# Altium integrated library ON Semi Darlington Transistors.IntLib: 300 symbols (part 3 of 7)
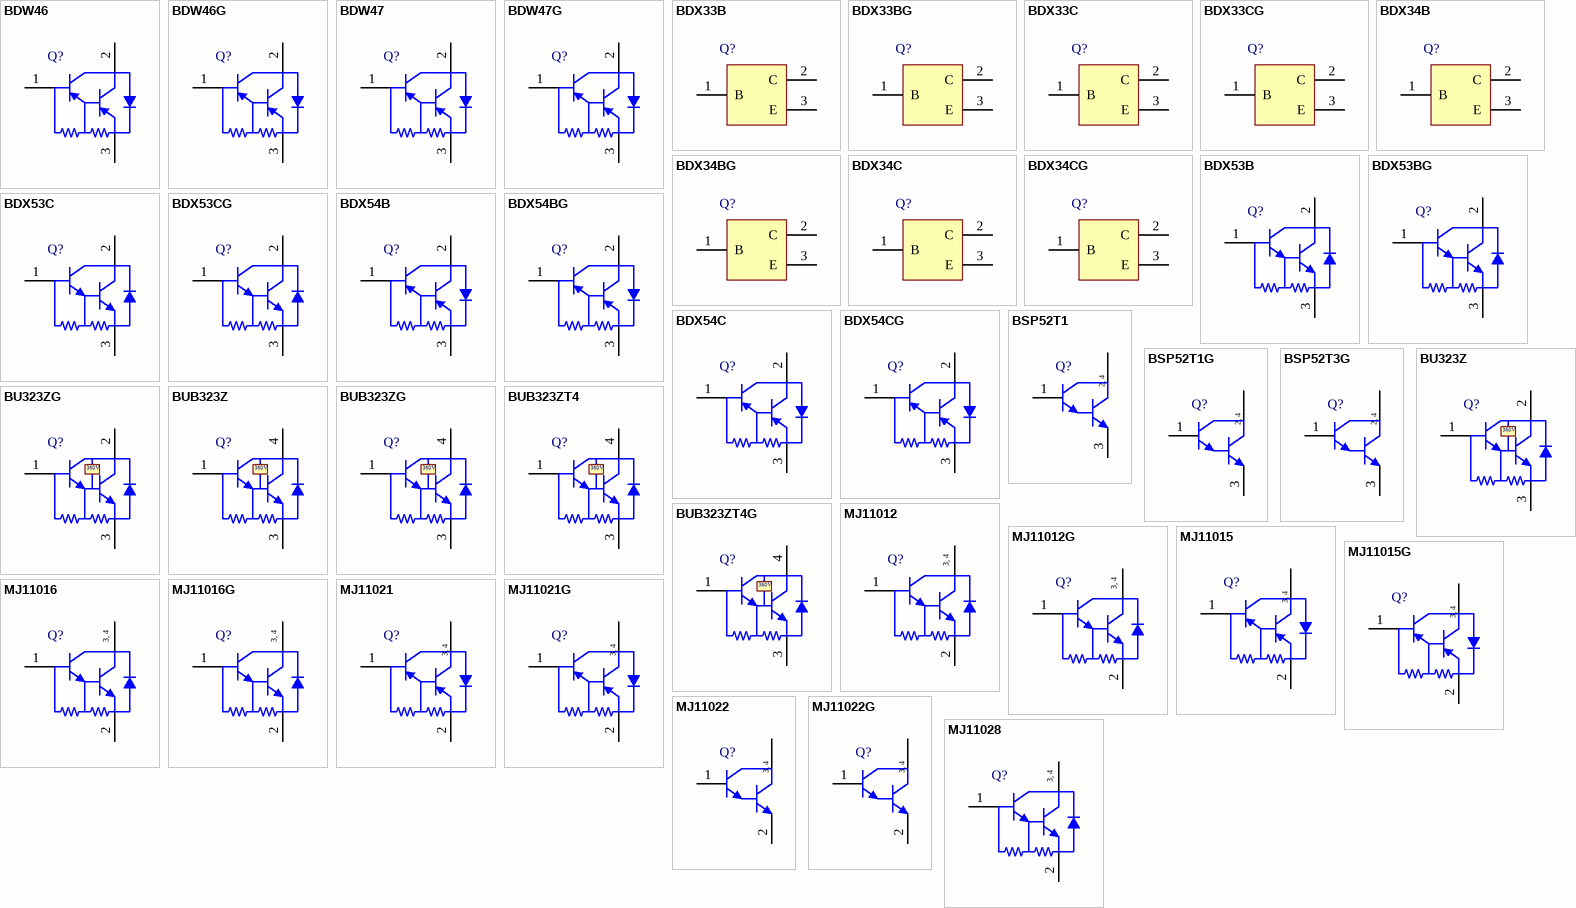
[diagram p9: symbols BDW46 to MJ11028]

## BDX54CG
designator Q?
Plastic Medium-Power Complementary Silicon Transistor, 3-Pin TO-220, Pb-Free, Tube; Manufacturer: On Semiconductor; PartNumber: BDX54CG; IC Continuous (A): 8; Polarity: PNP; DatasheetVersion: Rev. 14; PackageVersion: Rev. AG, 09/2011; PackageReference: TO-220-3-221A-09; PackageDescription: 3-Pin Flange Mount, Vertical Straight Lead, Body 9.97 x 4.445 mm, Pitch 2.54 mm; Supplier 1: Digi-Key; Supplier Part Number 1: BDX54CGOS-ND; Supplier 2: Farnell; Supplier Part Number 2: 9557768; Supplier 3: Newark; Supplier Part Number 3: 26K3490; Supplier 4: Mouser; Supplier Part Number 4: 863-BDX54CG; Packing: Tube; RoHS: TRUE; Mounting Technology: Through Hole; ComponentLink1Description: Manufacturer URL; ComponentLink1URL: http://www.onsemi.com/; ComponentLink2Description: Datasheet; ComponentLink2URL: http://www.onsemi.com/pub_link/Collateral/BDX53B-D.PDF; ComponentLink3Description: Package Specification; ComponentLink3URL: http://www.onsemi.com/pub_link/Collateral/221A-09.PDF
footprint ONSC-TO-220-3-221A-09 (FM, 3-Leads, Body 10.3x4.85mm, Pitch 2.54mm)
pins: 1 B, 2 C, 3 E

## BSP52T1
designator Q?
NPN Small-Signal Darlington Transistor, 4-Pin SOT-223, Tape and Reel; Manufacturer: On Semiconductor; PartNumber: BSP52T1; IC Continuous (A): 1; DatasheetVersion: Rev. 8; PackageVersion: Rev. N, 08/2009; PackageReference: SOT-223-4-318E-04; PackageDescription: 4-Pin Small Outline Transistor, Body 6.5 x 3.5 mm, Pitch 2.3 mm; Supplier 1: Digi-Key; Supplier Part Number 1: BSP52T1OSCT-ND; Supplier 2: Digi-Key; Supplier Part Number 2: BSP52T1OSDKR-ND; Packing: Tape and Reel; Polarity: NPN; RoHS: FALSE; Mounting Technology: Surface Mount; ComponentLink1Description: Manufacturer URL; ComponentLink1URL: http://www.onsemi.com/; ComponentLink2Description: Datasheet; ComponentLink2URL: http://www.onsemi.com/pub_link/Collateral/BSP52T1-D.PDF; ComponentLink3Description: Package Specification; ComponentLink3URL: http://www.onsemi.com/pub_link/Collateral/318E-04.PDF
footprint ONSC-SOT-223-4-318E-04_V (SOT223, 4-Leads, Body 6.5x3.5mm, Pitch 2.3mm)
pins: 1 B, 2 C, 3 E, 4 C
text: 2, 4

## BSP52T1G
designator Q?
NPN Small-Signal Darlington Transistor, 4-Pin SOT-223, Pb-Free, Tape and Reel; Manufacturer: On Semiconductor; PartNumber: BSP52T1G; IC Continuous (A): 1; DatasheetVersion: Rev. 8; PackageVersion: Rev. N, 08/2009; PackageReference: SOT-223-4-318E-04; PackageDescription: 4-Pin Small Outline Transistor, Body 6.5 x 3.5 mm, Pitch 2.3 mm; Supplier 1: Digi-Key; Supplier Part Number 1: BSP52T1GOSTR-ND; Supplier 2: Digi-Key; Supplier Part Number 2: BSP52T1GOSCT-ND; Supplier 3: Digi-Key; Supplier Part Number 3: BSP52T1GOSDKR-ND; Supplier 4: Farnell; Supplier Part Number 4: 2317846; Supplier 5: Farnell; Supplier Part Number 5: 2317579; Supplier 6: Newark; Supplier Part Number 6: 85W3128; Supplier 7: Newark; Supplier Part Number 7: 45J0623; Supplier 8: Mouser; Supplier Part Number 8: 863-BSP52T1G; Packing: Tape and Reel; Polarity: NPN; RoHS: TRUE; Mounting Technology: Surface Mount; ComponentLink1Description: Manufacturer URL; ComponentLink1URL: http://www.onsemi.com/; ComponentLink2Description: Datasheet; ComponentLink2URL: http://www.onsemi.com/pub_link/Collateral/BSP52T1-D.PDF; ComponentLink3Description: Package Specification; ComponentLink3URL: http://www.onsemi.com/pub_link/Collateral/318E-04.PDF
footprint ONSC-SOT-223-4-318E-04_V (SOT223, 4-Leads, Body 6.5x3.5mm, Pitch 2.3mm)
pins: 1 B, 2 C, 3 E, 4 C
text: 2, 4

## BSP52T3G
designator Q?
NPN Small-Signal Darlington Transistor, 4-Pin SOT-223, Pb-Free, Tape and Reel; Manufacturer: On Semiconductor; PartNumber: BSP52T3G; IC Continuous (A): 1; DatasheetVersion: Rev. 8; PackageVersion: Rev. N, 08/2009; PackageReference: SOT-223-4-318E-04; PackageDescription: 4-Pin Small Outline Transistor, Body 6.5 x 3.5 mm, Pitch 2.3 mm; Supplier 1: Digi-Key; Supplier Part Number 1: BSP52T3GOSTR-ND; Supplier 2: Digi-Key; Supplier Part Number 2: BSP52T3GOSCT-ND; Supplier 3: Digi-Key; Supplier Part Number 3: BSP52T3GOSDKR-ND; Supplier 4: Farnell; Supplier Part Number 4: 1887073; Supplier 5: Newark; Supplier Part Number 5: 09R9391; Supplier 6: Mouser; Supplier Part Number 6: 863-BSP52T3G; Packing: Tape and Reel; Polarity: NPN; RoHS: TRUE; Mounting Technology: Surface Mount; ComponentLink1Description: Manufacturer URL; ComponentLink1URL: http://www.onsemi.com/; ComponentLink2Description: Datasheet; ComponentLink2URL: http://www.onsemi.com/pub_link/Collateral/BSP52T1-D.PDF; ComponentLink3Description: Package Specification; ComponentLink3URL: http://www.onsemi.com/pub_link/Collateral/318E-04.PDF
footprint ONSC-SOT-223-4-318E-04_V (SOT223, 4-Leads, Body 6.5x3.5mm, Pitch 2.3mm)
pins: 1 B, 2 C, 3 E, 4 C
text: 2, 4

## BU323Z
designator Q?
NPN Silicon Power Darlington, High Voltage Autoprotected, 3-Pin SOT-93, Tube; Manufacturer: On Semiconductor; PartNumber: BU323Z; hFE Max (k): 3.4; IC Continuous (A): 10; DatasheetVersion: Rev. 16; PackageVersion: Rev. E; PackageReference: SOT-93_TO-218-3-340D-02; PackageDescription: 3-Pin Flange Mount, Vertical Straight Lead, Body 14.95 x 4.8 mm, Pitch 5.475 mm; Supplier 1: Digi-Key; Supplier Part Number 1: BU323Z-ND; Packing: Tube; Polarity: NPN; RoHS: FALSE; Mounting Technology: Through Hole; ComponentLink1Description: Manufacturer URL; ComponentLink1URL: http://www.onsemi.com/; ComponentLink2Description: Datasheet; ComponentLink2URL: http://www.onsemi.com/pub_link/Collateral/BU323Z-D.PDF; ComponentLink3Description: Package Specification; ComponentLink3URL: http://www.onsemi.com/pub_link/Collateral/TIP33C-D.PDF
footprint ONSC-SOT-93_TO-218-3-340D-02 (FM, 3-Leads, Body 15.2x4.9mm, Pitch 5.475mm)
pins: 1 B, 2 C, 3 E
text: 360V

## BU323ZG
designator Q?
NPN Silicon Power Darlington, High Voltage Autoprotected, 3-Pin TO-247, Pb-Free, Tube; Manufacturer: On Semiconductor; PartNumber: BU323ZG; hFE Max (k): 3.4; IC Continuous (A): 10; DatasheetVersion: Rev. 16; PackageVersion: Rev. F, 10/2011; PackageReference: TO-247-3-340L-02; PackageDescription: 3-Pin Flange Mount, Vertical Straight Lead, Body 16.005 x 5 mm, Pitch 5.45 mm; Supplier 1: Digi-Key; Supplier Part Number 1: BU323ZGOS-ND; Supplier 2: Farnell; Supplier Part Number 2: 9555960; Supplier 3: Newark; Supplier Part Number 3: 26K3556; Supplier 4: Mouser; Supplier Part Number 4: 863-BU323ZG; Packing: Tube; Polarity: NPN; RoHS: TRUE; Mounting Technology: Through Hole; ComponentLink1Description: Manufacturer URL; ComponentLink1URL: http://www.onsemi.com/; ComponentLink2Description: Datasheet; ComponentLink2URL: http://www.onsemi.com/pub_link/Collateral/BU323Z-D.PDF; ComponentLink3Description: Package Specification; ComponentLink3URL: http://www.onsemi.cn/pub_link/Collateral/340L-02.PDF
footprint ONSC-TO-247-3-340L-02 (FM, 3-Leads, Body 16.3x5.3mm, Pitch 5.45mm)
pins: 1 B, 2 C, 3 E
text: 360V

## BUB323Z
designator Q?
NPN Silicon Power Darlington, High Voltage Autoprotected for Surface Mount, 3-Pin D2PAK, Tube; Manufacturer: On Semiconductor; PartNumber: BUB323Z; hFE Max (k): 3.4; IC Continuous (A): 10; DatasheetVersion: Rev. 1; PackageVersion: Rev. J, 08/2004; PackageReference: D2PAK-3-418B-04_J; PackageDescription: 3-Pin D2PAK, Body 9.145 x 9.97 mm, Pitch 2.54 mm; Supplier 1: Digi-Key; Supplier Part Number 1: BUB323Z-ND; Packing: Tube; Polarity: NPN; RoHS: FALSE; Mounting Technology: Surface Mount; ComponentLink1Description: Manufacturer URL; ComponentLink1URL: http://www.onsemi.com/; ComponentLink2Description: Datasheet; ComponentLink2URL: http://www.onsemi.com/pub_link/Collateral/BUB323Z-D.PDF; ComponentLink3Description: Package Specification; ComponentLink3URL: http://www.onsemi.com/pub_link/Collateral/BUB323Z-D.PDF
footprint ONSC-D2PAK-3-418B-04_J_V (FM, 3-Leads, Body 9.97x9.145mm, Pitch 2.54mm)
pins: 1 B, 3 E, 4 C
text: 360V

## BUB323ZG
designator Q?
NPN Silicon Power Darlington, High Voltage Autoprotected for Surface Mount, 3-Pin D2PAK, Pb-Free, Tube; Manufacturer: On Semiconductor; PartNumber: BUB323ZG; hFE Max (k): 3.4; IC Continuous (A): 10; DatasheetVersion: Rev. 1; PackageVersion: Rev. J, 08/2004; PackageReference: D2PAK-3-418B-04_J; PackageDescription: 3-Pin D2PAK, Body 9.145 x 9.97 mm, Pitch 2.54 mm; Supplier 1: Digi-Key; Supplier Part Number 1: BUB323ZG-ND; Supplier 2: Newark; Supplier Part Number 2: 41K9629; Supplier 3: Mouser; Supplier Part Number 3: 863-BUB323ZG; Packing: Tube; Polarity: NPN; RoHS: TRUE; Mounting Technology: Surface Mount; ComponentLink1Description: Manufacturer URL; ComponentLink1URL: http://www.onsemi.com/; ComponentLink2Description: Datasheet; ComponentLink2URL: http://www.onsemi.com/pub_link/Collateral/BUB323Z-D.PDF; ComponentLink3Description: Package Specification; ComponentLink3URL: http://www.onsemi.com/pub_link/Collateral/BUB323Z-D.PDF
footprint ONSC-D2PAK-3-418B-04_J_V (FM, 3-Leads, Body 9.97x9.145mm, Pitch 2.54mm)
pins: 1 B, 3 E, 4 C
text: 360V

## BUB323ZT4
designator Q?
NPN Silicon Power Darlington, High Voltage Autoprotected for Surface Mount, 3-Pin D2PAK, Tape and Reel; Manufacturer: On Semiconductor; PartNumber: BUB323ZT4; hFE Max (k): 3.4; IC Continuous (A): 10; DatasheetVersion: Rev. 1; PackageVersion: Rev. J, 08/2004; PackageReference: D2PAK-3-418B-04_J; PackageDescription: 3-Pin D2PAK, Body 9.145 x 9.97 mm, Pitch 2.54 mm; Supplier 1: Digi-Key; Supplier Part Number 1: BUB323ZT4OS-ND; Packing: Tape and Reel; Polarity: NPN; RoHS: FALSE; Mounting Technology: Surface Mount; ComponentLink1Description: Manufacturer URL; ComponentLink1URL: http://www.onsemi.com/; ComponentLink2Description: Datasheet; ComponentLink2URL: http://www.onsemi.com/pub_link/Collateral/BUB323Z-D.PDF; ComponentLink3Description: Package Specification; ComponentLink3URL: http://www.onsemi.com/pub_link/Collateral/BUB323Z-D.PDF
footprint ONSC-D2PAK-3-418B-04_J_V (FM, 3-Leads, Body 9.97x9.145mm, Pitch 2.54mm)
pins: 1 B, 3 E, 4 C
text: 360V

## BUB323ZT4G
designator Q?
NPN Silicon Power Darlington, High Voltage Autoprotected for Surface Mount, 3-Pin D2PAK, Pb-Free, Tape and Reel; Manufacturer: On Semiconductor; PartNumber: BUB323ZT4G; hFE Max (k): 3.4; IC Continuous (A): 10; DatasheetVersion: Rev. 1; PackageVersion: Rev. J, 08/2004; PackageReference: D2PAK-3-418B-04_J; PackageDescription: 3-Pin D2PAK, Body 9.145 x 9.97 mm, Pitch 2.54 mm; Supplier 1: Digi-Key; Supplier Part Number 1: BUB323ZT4GOSTR-ND; Supplier 2: Digi-Key; Supplier Part Number 2: BUB323ZT4GOSCT-ND; Supplier 3: Digi-Key; Supplier Part Number 3: BUB323ZT4GOSDKR-ND; Supplier 4: Farnell; Supplier Part Number 4: 1653614; Supplier 5: Farnell; Supplier Part Number 5: 1653614RL; Supplier 6: Newark; Supplier Part Number 6: 41K9630; Supplier 7: Mouser; Supplier Part Number 7: 863-BUB323ZT4G; Packing: Tape and Reel; Polarity: NPN; RoHS: TRUE; Mounting Technology: Surface Mount; ComponentLink1Description: Manufacturer URL; ComponentLink1URL: http://www.onsemi.com/; ComponentLink2Description: Datasheet; ComponentLink2URL: http://www.onsemi.com/pub_link/Collateral/BUB323Z-D.PDF; ComponentLink3Description: Package Specification; ComponentLink3URL: http://www.onsemi.com/pub_link/Collateral/BUB323Z-D.PDF
footprint ONSC-D2PAK-3-418B-04_J_V (FM, 3-Leads, Body 9.97x9.145mm, Pitch 2.54mm)
pins: 1 B, 3 E, 4 C
text: 360V

## MJ11012
designator Q?
High-Current Complementary Silicon Transistor, 3-Pin TO-204, Tray; Manufacturer: On Semiconductor; PartNumber: MJ11012; Note: 0; IC Continuous (A): 30; Polarity: NPN; DatasheetVersion: Rev. 5; PackageVersion: Rev. Z, 05/1988; PackageReference: TO-204-3-1-07; PackageDescription: 2-Pin Transistor Outline, Body 39.37 x 26.67 mm, Pitch 10.92 mm; Packing: Tray; RoHS: FALSE; Mounting Technology: Through Hole; ComponentLink1Description: Manufacturer URL; ComponentLink1URL: http://www.onsemi.com/; ComponentLink2Description: Datasheet; ComponentLink2URL: http://www.onsemi.com/pub_link/Collateral/MJ11012-D.PDF; ComponentLink3Description: Package Specification; ComponentLink3URL: http://www.onsemi.com/pub_link/Collateral/1-07.PDF
footprint ONSC-TO-204-3-1-07 (TO-204, Pin Spacing 10.92mm, Lead Dia. 1.09 mm (max))
pins: 1 B, 2 E, 3 C, 4 C
text: 3, 4

## MJ11012G
designator Q?
High-Current Complementary Silicon Transistor, 3-Pin TO-204, Pb-Free, Tray; Manufacturer: On Semiconductor; PartNumber: MJ11012G; IC Continuous (A): 30; Polarity: NPN; DatasheetVersion: Rev. 5; PackageVersion: Rev. Z, 05/1988; PackageReference: TO-204-3-1-07; PackageDescription: 2-Pin Transistor Outline, Body 39.37 x 26.67 mm, Pitch 10.92 mm; Supplier 1: Digi-Key; Supplier Part Number 1: MJ11012GOS-ND; Supplier 2: Newark; Supplier Part Number 2: 42K1309; Supplier 3: Mouser; Supplier Part Number 3: 863-MJ11012G; Packing: Tray; RoHS: TRUE; Mounting Technology: Through Hole; ComponentLink1Description: Manufacturer URL; ComponentLink1URL: http://www.onsemi.com/; ComponentLink2Description: Datasheet; ComponentLink2URL: http://www.onsemi.com/pub_link/Collateral/MJ11012-D.PDF; ComponentLink3Description: Package Specification; ComponentLink3URL: http://www.onsemi.com/pub_link/Collateral/1-07.PDF
footprint ONSC-TO-204-3-1-07 (TO-204, Pin Spacing 10.92mm, Lead Dia. 1.09 mm (max))
pins: 1 B, 2 E, 3 C, 4 C
text: 3, 4

## MJ11015
designator Q?
High-Current Complementary Silicon Transistor, 3-Pin TO-204, Tray; Manufacturer: On Semiconductor; PartNumber: MJ11015; Note: 0; IC Continuous (A): 30; Polarity: PNP; DatasheetVersion: Rev. 5; PackageVersion: Rev. Z, 05/1988; PackageReference: TO-204-3-1-07; PackageDescription: 2-Pin Transistor Outline, Body 39.37 x 26.67 mm, Pitch 10.92 mm; Packing: Tray; RoHS: FALSE; Mounting Technology: Through Hole; ComponentLink1Description: Manufacturer URL; ComponentLink1URL: http://www.onsemi.com/; ComponentLink2Description: Datasheet; ComponentLink2URL: http://www.onsemi.com/pub_link/Collateral/MJ11012-D.PDF; ComponentLink3Description: Package Specification; ComponentLink3URL: http://www.onsemi.com/pub_link/Collateral/1-07.PDF
footprint ONSC-TO-204-3-1-07 (TO-204, Pin Spacing 10.92mm, Lead Dia. 1.09 mm (max))
pins: 1 B, 2 E, 3 C, 4 C
text: 3, 4

## MJ11015G
designator Q?
High-Current Complementary Silicon Transistor, 3-Pin TO-204, Pb-Free, Tray; Manufacturer: On Semiconductor; PartNumber: MJ11015G; IC Continuous (A): 30; Polarity: PNP; DatasheetVersion: Rev. 5; PackageVersion: Rev. Z, 05/1988; PackageReference: TO-204-3-1-07; PackageDescription: 2-Pin Transistor Outline, Body 39.37 x 26.67 mm, Pitch 10.92 mm; Supplier 1: Digi-Key; Supplier Part Number 1: MJ11015GOS-ND; Supplier 2: Farnell; Supplier Part Number 2: 9556575; Supplier 3: Newark; Supplier Part Number 3: 26K4504; Supplier 4: Mouser; Supplier Part Number 4: 863-MJ11015G; Packing: Tray; RoHS: TRUE; Mounting Technology: Through Hole; ComponentLink1Description: Manufacturer URL; ComponentLink1URL: http://www.onsemi.com/; ComponentLink2Description: Datasheet; ComponentLink2URL: http://www.onsemi.com/pub_link/Collateral/MJ11012-D.PDF; ComponentLink3Description: Package Specification; ComponentLink3URL: http://www.onsemi.com/pub_link/Collateral/1-07.PDF
footprint ONSC-TO-204-3-1-07 (TO-204, Pin Spacing 10.92mm, Lead Dia. 1.09 mm (max))
pins: 1 B, 2 E, 3 C, 4 C
text: 3, 4

## MJ11016
designator Q?
High-Current Complementary Silicon Transistor, 3-Pin TO-204, Tray; Manufacturer: On Semiconductor; PartNumber: MJ11016; IC Continuous (A): 30; Polarity: NPN; DatasheetVersion: Rev. 5; PackageVersion: Rev. Z, 05/1988; PackageReference: TO-204-3-1-07; PackageDescription: 2-Pin Transistor Outline, Body 39.37 x 26.67 mm, Pitch 10.92 mm; Supplier 1: Digi-Key; Supplier Part Number 1: MJ11016OS-ND; Packing: Tray; RoHS: FALSE; Mounting Technology: Through Hole; ComponentLink1Description: Manufacturer URL; ComponentLink1URL: http://www.onsemi.com/; ComponentLink2Description: Datasheet; ComponentLink2URL: http://www.onsemi.com/pub_link/Collateral/MJ11012-D.PDF; ComponentLink3Description: Package Specification; ComponentLink3URL: http://www.onsemi.com/pub_link/Collateral/1-07.PDF
footprint ONSC-TO-204-3-1-07 (TO-204, Pin Spacing 10.92mm, Lead Dia. 1.09 mm (max))
pins: 1 B, 2 E, 3 C, 4 C
text: 3, 4

## MJ11016G
designator Q?
High-Current Complementary Silicon Transistor, 3-Pin TO-204, Pb-Free, Tray; Manufacturer: On Semiconductor; PartNumber: MJ11016G; IC Continuous (A): 30; Polarity: NPN; DatasheetVersion: Rev. 5; PackageVersion: Rev. Z, 05/1988; PackageReference: TO-204-3-1-07; PackageDescription: 2-Pin Transistor Outline, Body 39.37 x 26.67 mm, Pitch 10.92 mm; Supplier 1: Digi-Key; Supplier Part Number 1: MJ11016GOS-ND; Supplier 2: Farnell; Supplier Part Number 2: 9556583; Supplier 3: Newark; Supplier Part Number 3: 26K4505; Supplier 4: Mouser; Supplier Part Number 4: 863-MJ11016G; Packing: Tray; RoHS: TRUE; Mounting Technology: Through Hole; ComponentLink1Description: Manufacturer URL; ComponentLink1URL: http://www.onsemi.com/; ComponentLink2Description: Datasheet; ComponentLink2URL: http://www.onsemi.com/pub_link/Collateral/MJ11012-D.PDF; ComponentLink3Description: Package Specification; ComponentLink3URL: http://www.onsemi.com/pub_link/Collateral/1-07.PDF
footprint ONSC-TO-204-3-1-07 (TO-204, Pin Spacing 10.92mm, Lead Dia. 1.09 mm (max))
pins: 1 B, 2 E, 3 C, 4 C
text: 3, 4

## MJ11021
designator Q?
Complementary Darlington Silicon Power Transistor, 3-Pin TO-204, Tray; Manufacturer: On Semiconductor; PartNumber: MJ11021; hFE Max (k): 15; Polarity: PNP; DatasheetVersion: Rev. 3; PackageVersion: Rev. Z, 05/1988; PackageReference: TO-204-3-1-07; PackageDescription: 2-Pin Transistor Outline, Body 39.37 x 26.67 mm, Pitch 10.92 mm; Supplier 1: Digi-Key; Supplier Part Number 1: MJ11021-ND; IC Continuous (A): 15; Packing: Tray; RoHS: FALSE; Mounting Technology: Through Hole; ComponentLink1Description: Manufacturer URL; ComponentLink1URL: http://www.onsemi.com/; ComponentLink2Description: Datasheet; ComponentLink2URL: http://www.onsemi.com/pub_link/Collateral/MJ11021-D.PDF; ComponentLink3Description: Package Specification; ComponentLink3URL: http://www.onsemi.com/pub_link/Collateral/1-07.PDF
footprint ONSC-TO-204-3-1-07 (TO-204, Pin Spacing 10.92mm, Lead Dia. 1.09 mm (max))
pins: 1 B, 2 E, 3 C, 4 C
text: 3, 4

## MJ11021G
designator Q?
Complementary Darlington Silicon Power Transistor, 3-Pin TO-204, Pb-Free, Tray; Manufacturer: On Semiconductor; PartNumber: MJ11021G; hFE Max (k): 15; Polarity: PNP; DatasheetVersion: Rev. 3; PackageVersion: Rev. Z, 05/1988; PackageReference: TO-204-3-1-07; PackageDescription: 2-Pin Transistor Outline, Body 39.37 x 26.67 mm, Pitch 10.92 mm; Supplier 1: Digi-Key; Supplier Part Number 1: MJ11021GOS-ND; Supplier 2: Newark; Supplier Part Number 2: 42K1310; Supplier 3: Mouser; Supplier Part Number 3: 863-MJ11021G; IC Continuous (A): 15; Packing: Tray; RoHS: TRUE; Mounting Technology: Through Hole; ComponentLink1Description: Manufacturer URL; ComponentLink1URL: http://www.onsemi.com/; ComponentLink2Description: Datasheet; ComponentLink2URL: http://www.onsemi.com/pub_link/Collateral/MJ11021-D.PDF; ComponentLink3Description: Package Specification; ComponentLink3URL: http://www.onsemi.com/pub_link/Collateral/1-07.PDF
footprint ONSC-TO-204-3-1-07 (TO-204, Pin Spacing 10.92mm, Lead Dia. 1.09 mm (max))
pins: 1 B, 2 E, 3 C, 4 C
text: 3, 4

## MJ11022
designator Q?
Complementary Darlington Silicon Power Transistor, 3-Pin TO-204, Tray; Manufacturer: On Semiconductor; PartNumber: MJ11022; hFE Max (k): 15; Polarity: NPN; DatasheetVersion: Rev. 3; PackageVersion: Rev. Z, 05/1988; PackageReference: TO-204-3-1-07; PackageDescription: 2-Pin Transistor Outline, Body 39.37 x 26.67 mm, Pitch 10.92 mm; Supplier 1: Digi-Key; Supplier Part Number 1: MJ11022-ND; IC Continuous (A): 15; Packing: Tray; RoHS: FALSE; Mounting Technology: Through Hole; ComponentLink1Description: Manufacturer URL; ComponentLink1URL: http://www.onsemi.com/; ComponentLink2Description: Datasheet; ComponentLink2URL: http://www.onsemi.com/pub_link/Collateral/MJ11021-D.PDF; ComponentLink3Description: Package Specification; ComponentLink3URL: http://www.onsemi.com/pub_link/Collateral/1-07.PDF
footprint ONSC-TO-204-3-1-07 (TO-204, Pin Spacing 10.92mm, Lead Dia. 1.09 mm (max))
pins: 1 B, 2 E, 3 C, 4 C
text: 3, 4

## MJ11022G
designator Q?
Complementary Darlington Silicon Power Transistor, 3-Pin TO-204, Pb-Free, Tray; Manufacturer: On Semiconductor; PartNumber: MJ11022G; hFE Max (k): 15; Polarity: NPN; DatasheetVersion: Rev. 3; PackageVersion: Rev. Z, 05/1988; PackageReference: TO-204-3-1-07; PackageDescription: 2-Pin Transistor Outline, Body 39.37 x 26.67 mm, Pitch 10.92 mm; Supplier 1: Digi-Key; Supplier Part Number 1: MJ11022GOS-ND; Supplier 2: Newark; Supplier Part Number 2: 42K1311; Supplier 3: Mouser; Supplier Part Number 3: 863-MJ11022G; IC Continuous (A): 15; Packing: Tray; RoHS: TRUE; Mounting Technology: Through Hole; ComponentLink1Description: Manufacturer URL; ComponentLink1URL: http://www.onsemi.com/; ComponentLink2Description: Datasheet; ComponentLink2URL: http://www.onsemi.com/pub_link/Collateral/MJ11021-D.PDF; ComponentLink3Description: Package Specification; ComponentLink3URL: http://www.onsemi.com/pub_link/Collateral/1-07.PDF
footprint ONSC-TO-204-3-1-07 (TO-204, Pin Spacing 10.92mm, Lead Dia. 1.09 mm (max))
pins: 1 B, 2 E, 3 C, 4 C
text: 3, 4

## MJ11028
designator Q?
High-Current Complementary Silicon Power Transistor, 3-Pin TO-204, Tray; Manufacturer: On Semiconductor; PartNumber: MJ11028; Note: 0; hFE Max (k): 18; IC Continuous (A): 50; Polarity: NPN; DatasheetVersion: Rev. 6; PackageVersion: Rev. K, 02/2000; PackageReference: TO-204-3-197A-05; PackageDescription: 2-Pin Transistor Outline, Body 38.86 x 25.91 mm, Pitch 10.92 mm; Packing: Tray; RoHS: FALSE; Mounting Technology: Through Hole; ComponentLink1Description: Manufacturer URL; ComponentLink1URL: http://www.onsemi.com/; ComponentLink2Description: Datasheet; ComponentLink2URL: http://www.onsemi.com/pub_link/Collateral/MJ11028-D.PDF; ComponentLink3Description: Package Specification; ComponentLink3URL: http://www.onsemi.com/pub_link/Collateral/197A-05.PDF
footprint ONSC-TO-204-3-197A-05 (TO-204, Pin Spacing 10.92 mm, Lead Dia. 1.6 mm (max))
pins: 1 B, 2 E, 3 C, 4 C
text: 3, 4

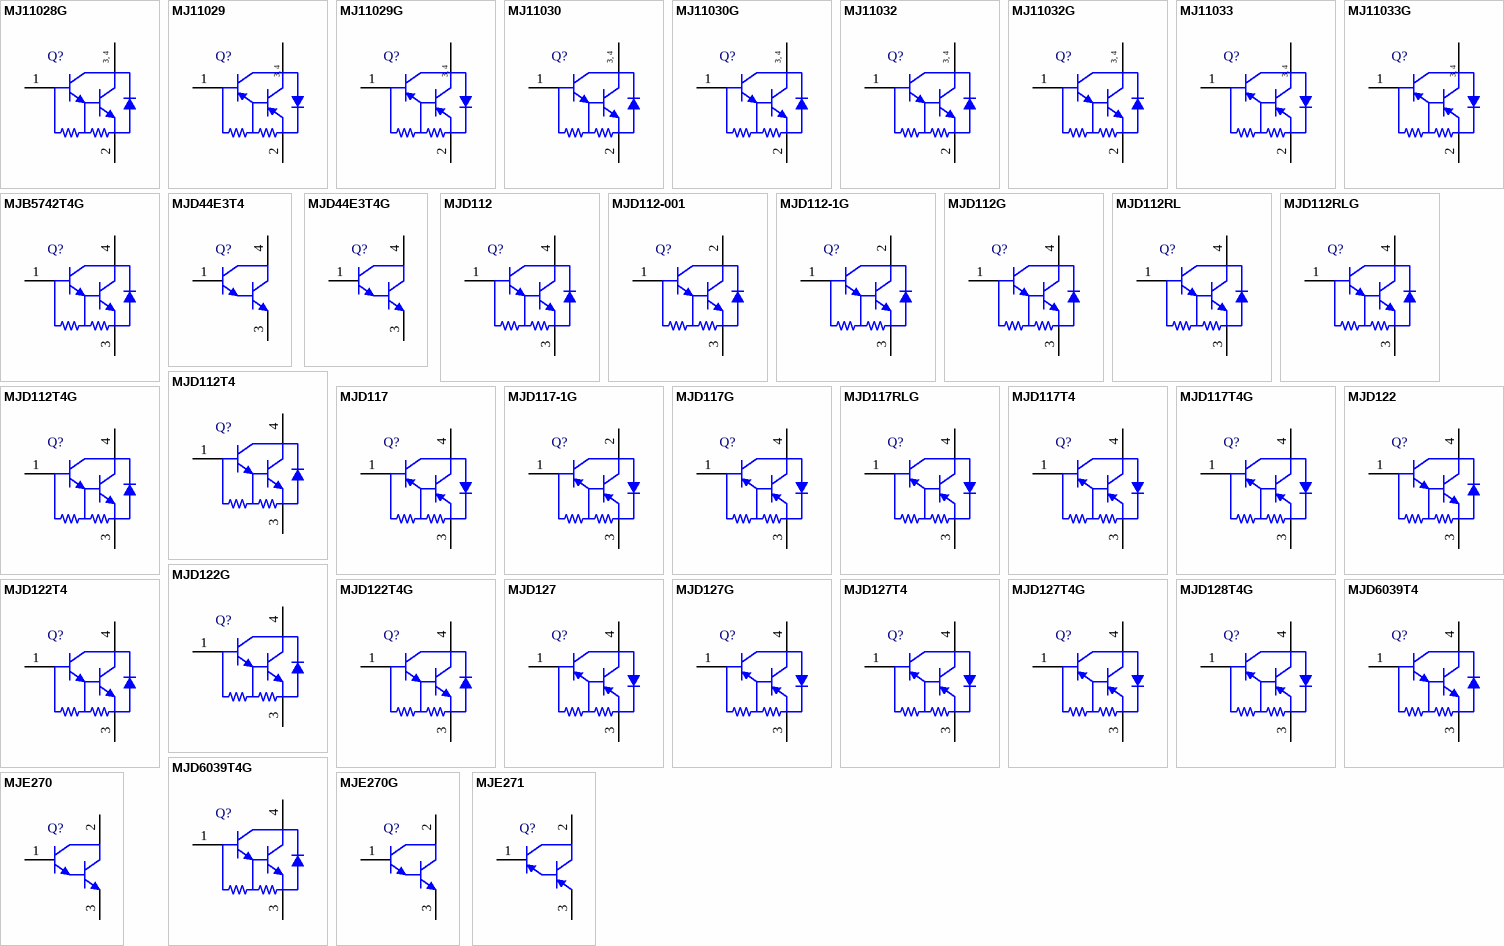
[diagram p3: symbols MJ11028G to MJE271]

## MJ11028G
designator Q?
High-Current Complementary Silicon Power Transistor, 3-Pin TO-204, Pb-Free, Tray; Manufacturer: On Semiconductor; PartNumber: MJ11028G; hFE Max (k): 18; IC Continuous (A): 50; Polarity: NPN; DatasheetVersion: Rev. 6; PackageVersion: Rev. K, 02/2000; PackageReference: TO-204-3-197A-05; PackageDescription: 2-Pin Transistor Outline, Body 38.86 x 25.91 mm, Pitch 10.92 mm; Supplier 1: Digi-Key; Supplier Part Number 1: MJ11028GOS-NDOS-ND; Supplier 2: Farnell; Supplier Part Number 2: 1126257; Supplier 3: Newark; Supplier Part Number 3: 42K1312; Supplier 4: Mouser; Supplier Part Number 4: 863-MJ11028G; Packing: Tray; RoHS: TRUE; Mounting Technology: Through Hole; ComponentLink1Description: Manufacturer URL; ComponentLink1URL: http://www.onsemi.com/; ComponentLink2Description: Datasheet; ComponentLink2URL: http://www.onsemi.com/pub_link/Collateral/MJ11028-D.PDF; ComponentLink3Description: Package Specification; ComponentLink3URL: http://www.onsemi.com/pub_link/Collateral/197A-05.PDF
footprint ONSC-TO-204-3-197A-05 (TO-204, Pin Spacing 10.92 mm, Lead Dia. 1.6 mm (max))
pins: 1 B, 2 E, 3 C, 4 C
text: 3, 4

## MJ11029
designator Q?
High-Current Complementary Silicon Power Transistor, 3-Pin TO-204, Tray; Manufacturer: On Semiconductor; PartNumber: MJ11029; hFE Max (k): 18; IC Continuous (A): 50; Polarity: PNP; DatasheetVersion: Rev. 6; PackageVersion: Rev. K, 02/2000; PackageReference: TO-204-3-197A-05; PackageDescription: 2-Pin Transistor Outline, Body 38.86 x 25.91 mm, Pitch 10.92 mm; Supplier 1: Mouser; Supplier Part Number 1: 863-MJ11029; Packing: Tray; RoHS: FALSE; Mounting Technology: Through Hole; ComponentLink1Description: Manufacturer URL; ComponentLink1URL: http://www.onsemi.com/; ComponentLink2Description: Datasheet; ComponentLink2URL: http://www.onsemi.com/pub_link/Collateral/MJ11028-D.PDF; ComponentLink3Description: Package Specification; ComponentLink3URL: http://www.onsemi.com/pub_link/Collateral/197A-05.PDF
footprint ONSC-TO-204-3-197A-05 (TO-204, Pin Spacing 10.92 mm, Lead Dia. 1.6 mm (max))
pins: 1 B, 2 E, 3 C, 4 C
text: 3, 4

## MJ11029G
designator Q?
High-Current Complementary Silicon Power Transistor, 3-Pin TO-204, Pb-Free, Tray; Manufacturer: On Semiconductor; PartNumber: MJ11029G; hFE Max (k): 18; IC Continuous (A): 50; Polarity: PNP; DatasheetVersion: Rev. 6; PackageVersion: Rev. K, 02/2000; PackageReference: TO-204-3-197A-05; PackageDescription: 2-Pin Transistor Outline, Body 38.86 x 25.91 mm, Pitch 10.92 mm; Supplier 1: Mouser; Supplier Part Number 1: 863-MJ11029G; Packing: Tray; RoHS: TRUE; Mounting Technology: Through Hole; ComponentLink1Description: Manufacturer URL; ComponentLink1URL: http://www.onsemi.com/; ComponentLink2Description: Datasheet; ComponentLink2URL: http://www.onsemi.com/pub_link/Collateral/MJ11028-D.PDF; ComponentLink3Description: Package Specification; ComponentLink3URL: http://www.onsemi.com/pub_link/Collateral/197A-05.PDF
footprint ONSC-TO-204-3-197A-05 (TO-204, Pin Spacing 10.92 mm, Lead Dia. 1.6 mm (max))
pins: 1 B, 2 E, 3 C, 4 C
text: 3, 4

## MJ11030
designator Q?
High-Current Complementary Silicon Power Transistor, 3-Pin TO-204, Tray; Manufacturer: On Semiconductor; PartNumber: MJ11030; hFE Max (k): 18; IC Continuous (A): 50; Polarity: NPN; DatasheetVersion: Rev. 6; PackageVersion: Rev. K, 02/2000; PackageReference: TO-204-3-197A-05; PackageDescription: 2-Pin Transistor Outline, Body 38.86 x 25.91 mm, Pitch 10.92 mm; Supplier 1: Digi-Key; Supplier Part Number 1: MJ11030-ND; Supplier 2: Mouser; Supplier Part Number 2: N/A; Packing: Tray; RoHS: FALSE; Mounting Technology: Through Hole; ComponentLink1Description: Manufacturer URL; ComponentLink1URL: http://www.onsemi.com/; ComponentLink2Description: Datasheet; ComponentLink2URL: http://www.onsemi.com/pub_link/Collateral/MJ11028-D.PDF; ComponentLink3Description: Package Specification; ComponentLink3URL: http://www.onsemi.com/pub_link/Collateral/197A-05.PDF
footprint ONSC-TO-204-3-197A-05 (TO-204, Pin Spacing 10.92 mm, Lead Dia. 1.6 mm (max))
pins: 1 B, 2 E, 3 C, 4 C
text: 3, 4

## MJ11030G
designator Q?
High-Current Complementary Silicon Power Transistor, 3-Pin TO-204, Pb-Free, Tray; Manufacturer: On Semiconductor; PartNumber: MJ11030G; hFE Max (k): 18; IC Continuous (A): 50; Polarity: NPN; DatasheetVersion: Rev. 6; PackageVersion: Rev. K, 02/2000; PackageReference: TO-204-3-197A-05; PackageDescription: 2-Pin Transistor Outline, Body 38.86 x 25.91 mm, Pitch 10.92 mm; Supplier 1: Digi-Key; Supplier Part Number 1: MJ11030G-ND; Supplier 2: Mouser; Supplier Part Number 2: 863-MJ11030G; Packing: Tray; RoHS: TRUE; Mounting Technology: Through Hole; ComponentLink1Description: Manufacturer URL; ComponentLink1URL: http://www.onsemi.com/; ComponentLink2Description: Datasheet; ComponentLink2URL: http://www.onsemi.com/pub_link/Collateral/MJ11028-D.PDF; ComponentLink3Description: Package Specification; ComponentLink3URL: http://www.onsemi.com/pub_link/Collateral/197A-05.PDF
footprint ONSC-TO-204-3-197A-05 (TO-204, Pin Spacing 10.92 mm, Lead Dia. 1.6 mm (max))
pins: 1 B, 2 E, 3 C, 4 C
text: 3, 4

## MJ11032
designator Q?
High-Current Complementary Silicon Power Transistor, 3-Pin TO-204, Tray; Manufacturer: On Semiconductor; PartNumber: MJ11032; hFE Max (k): 18; IC Continuous (A): 50; Polarity: NPN; DatasheetVersion: Rev. 6; PackageVersion: Rev. K, 02/2000; PackageReference: TO-204-3-197A-05; PackageDescription: 2-Pin Transistor Outline, Body 38.86 x 25.91 mm, Pitch 10.92 mm; Supplier 1: Digi-Key; Supplier Part Number 1: MJ11032OS-ND; Packing: Tray; RoHS: FALSE; Mounting Technology: Through Hole; ComponentLink1Description: Manufacturer URL; ComponentLink1URL: http://www.onsemi.com/; ComponentLink2Description: Datasheet; ComponentLink2URL: http://www.onsemi.com/pub_link/Collateral/MJ11028-D.PDF; ComponentLink3Description: Package Specification; ComponentLink3URL: http://www.onsemi.com/pub_link/Collateral/197A-05.PDF
footprint ONSC-TO-204-3-197A-05 (TO-204, Pin Spacing 10.92 mm, Lead Dia. 1.6 mm (max))
pins: 1 B, 2 E, 3 C, 4 C
text: 3, 4

## MJ11032G
designator Q?
High-Current Complementary Silicon Power Transistor, 3-Pin TO-204, Pb-Free, Tray; Manufacturer: On Semiconductor; PartNumber: MJ11032G; hFE Max (k): 18; IC Continuous (A): 50; Polarity: NPN; DatasheetVersion: Rev. 6; PackageVersion: Rev. K, 02/2000; PackageReference: TO-204-3-197A-05; PackageDescription: 2-Pin Transistor Outline, Body 38.86 x 25.91 mm, Pitch 10.92 mm; Supplier 1: Digi-Key; Supplier Part Number 1: MJ11032GOS-ND; Supplier 2: Farnell; Supplier Part Number 2: 1611191; Supplier 3: Newark; Supplier Part Number 3: 26K4507; Supplier 4: Mouser; Supplier Part Number 4: 863-MJ11032G; Packing: Tray; RoHS: TRUE; Mounting Technology: Through Hole; ComponentLink1Description: Manufacturer URL; ComponentLink1URL: http://www.onsemi.com/; ComponentLink2Description: Datasheet; ComponentLink2URL: http://www.onsemi.com/pub_link/Collateral/MJ11028-D.PDF; ComponentLink3Description: Package Specification; ComponentLink3URL: http://www.onsemi.com/pub_link/Collateral/197A-05.PDF
footprint ONSC-TO-204-3-197A-05 (TO-204, Pin Spacing 10.92 mm, Lead Dia. 1.6 mm (max))
pins: 1 B, 2 E, 3 C, 4 C
text: 3, 4

## MJ11033
designator Q?
High-Current Complementary Silicon Power Transistor, 3-Pin TO-204, Tray; Manufacturer: On Semiconductor; PartNumber: MJ11033; Note: 0; hFE Max (k): 18; IC Continuous (A): 50; Polarity: PNP; DatasheetVersion: Rev. 6; PackageVersion: Rev. K, 02/2000; PackageReference: TO-204-3-197A-05; PackageDescription: 2-Pin Transistor Outline, Body 38.86 x 25.91 mm, Pitch 10.92 mm; Packing: Tray; RoHS: FALSE; Mounting Technology: Through Hole; ComponentLink1Description: Manufacturer URL; ComponentLink1URL: http://www.onsemi.com/; ComponentLink2Description: Datasheet; ComponentLink2URL: http://www.onsemi.com/pub_link/Collateral/MJ11028-D.PDF; ComponentLink3Description: Package Specification; ComponentLink3URL: http://www.onsemi.com/pub_link/Collateral/197A-05.PDF
footprint ONSC-TO-204-3-197A-05 (TO-204, Pin Spacing 10.92 mm, Lead Dia. 1.6 mm (max))
pins: 1 B, 2 E, 3 C, 4 C
text: 3, 4

## MJ11033G
designator Q?
High-Current Complementary Silicon Power Transistor, 3-Pin TO-204, Pb-Free, Tray; Manufacturer: On Semiconductor; PartNumber: MJ11033G; hFE Max (k): 18; IC Continuous (A): 50; Polarity: PNP; DatasheetVersion: Rev. 6; PackageVersion: Rev. K, 02/2000; PackageReference: TO-204-3-197A-05; PackageDescription: 2-Pin Transistor Outline, Body 38.86 x 25.91 mm, Pitch 10.92 mm; Supplier 1: Digi-Key; Supplier Part Number 1: MJ11033GOS-ND; Supplier 2: Farnell; Supplier Part Number 2: 1125986; Supplier 3: Newark; Supplier Part Number 3: 26K4508; Supplier 4: Mouser; Supplier Part Number 4: 863-MJ11033G; Packing: Tray; RoHS: TRUE; Mounting Technology: Through Hole; ComponentLink1Description: Manufacturer URL; ComponentLink1URL: http://www.onsemi.com/; ComponentLink2Description: Datasheet; ComponentLink2URL: http://www.onsemi.com/pub_link/Collateral/MJ11028-D.PDF; ComponentLink3Description: Package Specification; ComponentLink3URL: http://www.onsemi.com/pub_link/Collateral/197A-05.PDF
footprint ONSC-TO-204-3-197A-05 (TO-204, Pin Spacing 10.92 mm, Lead Dia. 1.6 mm (max))
pins: 1 B, 2 E, 3 C, 4 C
text: 3, 4

## MJB5742T4G
designator Q?
NPN Silicon Power Darlington Transistor, 3-Pin D2PAK, Pb-Free, Tape and Reel; Manufacturer: On Semiconductor; PartNumber: MJB5742T4G; IC Continuous (A): 8; DatasheetVersion: Rev. 2; PackageVersion: Rev. K, 09/2008; PackageReference: D2PAK-3-418B-04; PackageDescription: 3-Pin Flange Mount, Body 9.145 x 9.97 mm, Pitch 2.54 mm; Supplier 1: Digi-Key; Supplier Part Number 1: MJB5742T4GOSTR-ND; Supplier 2: Digi-Key; Supplier Part Number 2: MJB5742T4GOSCT-ND; Supplier 3: Digi-Key; Supplier Part Number 3: MJB5742T4GOSDKR-ND; Supplier 4: Farnell; Supplier Part Number 4: 1961700; Supplier 5: Mouser; Supplier Part Number 5: 863-MJB5742T4G; Packing: Tape and Reel; Polarity: NPN; RoHS: TRUE; Mounting Technology: Surface Mount; ComponentLink1Description: Manufacturer URL; ComponentLink1URL: http://www.onsemi.com/; ComponentLink2Description: Datasheet; ComponentLink2URL: http://www.onsemi.com/pub_link/Collateral/MJB5742-D.PDF; ComponentLink3Description: Package Specification; ComponentLink3URL: http://www.onsemi.com/pub_link/Collateral/418B-04.PDF
footprint ONSC-D2PAK-3-418B-04_V (DPAK, 3-Leads, Body 9.97x9.145mm, Pitch 2.54mm)
pins: 1 B, 3 E, 4 C

## MJD44E3T4
designator Q?
Darlington Power Transistor, 3-Pin DPAK, Tape and Reel; Manufacturer: On Semiconductor; PartNumber: MJD44E3T4; Note: 0; IC Continuous (A): 10; Polarity: NPN; DatasheetVersion: Rev. 10; PackageVersion: Rev. E, 02/2014; PackageReference: DPAK-3-369C-01; PackageDescription: 3-Pin Flange Mount, Body 6.54 x 6.095 mm, Pitch 2.29 mm; Packing: Tape and Reel; RoHS: FALSE; Mounting Technology: Surface Mount; ComponentLink1Description: Manufacturer URL; ComponentLink1URL: http://www.onsemi.com/; ComponentLink2Description: Datasheet; ComponentLink2URL: http://www.onsemi.com/pub_link/Collateral/MJD44E3-D.PDF; ComponentLink3Description: Package Specification; ComponentLink3URL: http://www.onsemi.cn/pub_link/Collateral/369C.PDF
footprint ONSC-DPAK-3-369C-01_V (DPAK, 3-Leads, Body 6.54x6.095mm, Pitch 2.29mm)
pins: 1 B, 3 E, 4 C

## MJD44E3T4G
designator Q?
Darlington Power Transistor, 3-Pin DPAK, Pb-Free, Tape and Reel; Manufacturer: On Semiconductor; PartNumber: MJD44E3T4G; IC Continuous (A): 10; Polarity: NPN; DatasheetVersion: Rev. 10; PackageVersion: Rev. E, 02/2014; PackageReference: DPAK-3-369C-01; PackageDescription: 3-Pin Flange Mount, Body 6.54 x 6.095 mm, Pitch 2.29 mm; Supplier 1: Digi-Key; Supplier Part Number 1: MJD44E3T4GOSTR-ND; Supplier 2: Digi-Key; Supplier Part Number 2: MJD44E3T4GOSCT-ND; Supplier 3: Digi-Key; Supplier Part Number 3: MJD44E3T4GOSDKR-ND; Supplier 4: Newark; Supplier Part Number 4: 42K1283; Supplier 5: Mouser; Supplier Part Number 5: 863-MJD44E3T4G; Packing: Tape and Reel; RoHS: TRUE; Mounting Technology: Surface Mount; ComponentLink1Description: Manufacturer URL; ComponentLink1URL: http://www.onsemi.com/; ComponentLink2Description: Datasheet; ComponentLink2URL: http://www.onsemi.com/pub_link/Collateral/MJD44E3-D.PDF; ComponentLink3Description: Package Specification; ComponentLink3URL: http://www.onsemi.cn/pub_link/Collateral/369C.PDF
footprint ONSC-DPAK-3-369C-01_V (DPAK, 3-Leads, Body 6.54x6.095mm, Pitch 2.29mm)
pins: 1 B, 3 E, 4 C

## MJD112
designator Q?
Complementary Darlington Power Transistor, 3-Pin DPAK, Tube; Manufacturer: On Semiconductor; PartNumber: MJD112; Note: 0; hFE Max (k): 12; IC Continuous (A): 2; Polarity: NPN; DatasheetVersion: Rev. 13; PackageVersion: Rev. E, 02/2014; PackageReference: DPAK-3-369C-01; PackageDescription: 3-Pin Flange Mount, Body 6.54 x 6.095 mm, Pitch 2.29 mm; Packing: Tube; RoHS: FALSE; Mounting Technology: Surface Mount; ComponentLink1Description: Manufacturer URL; ComponentLink1URL: http://www.onsemi.com/; ComponentLink2Description: Datasheet; ComponentLink2URL: http://www.onsemi.com/pub_link/Collateral/MJD112-D.PDF; ComponentLink3Description: Package Specification; ComponentLink3URL: http://www.onsemi.cn/pub_link/Collateral/369C.PDF
footprint ONSC-DPAK-3-369C-01_V (DPAK, 3-Leads, Body 6.54x6.095mm, Pitch 2.29mm)
pins: 1 B, 3 E, 4 C

## MJD112-001
designator Q?
Complementary Darlington Power Transistor, 3-Pin IPAK, Tube; Manufacturer: On Semiconductor; PartNumber: MJD112-001; hFE Max (k): 12; IC Continuous (A): 2; Polarity: NPN; DatasheetVersion: Rev. 13; PackageVersion: Rev. C, 12/2010; PackageReference: IPAK-3-369D-01; PackageDescription: 3-Pin Flange Mount, Vertical Straight Lead, Body 6.54 x 2.285 mm, Pitch 2.29 mm; Supplier 1: Digi-Key; Supplier Part Number 1: MJD112-001OS-ND; Supplier 2: Mouser; Supplier Part Number 2: 863-MJD112-001; Packing: Tube; RoHS: FALSE; Mounting Technology: Through Hole; Code_JEDEC: TO-251; ComponentLink1Description: Manufacturer URL; ComponentLink1URL: http://www.onsemi.com/; ComponentLink2Description: Datasheet; ComponentLink2URL: http://www.onsemi.com/pub_link/Collateral/MJD112-D.PDF; ComponentLink3Description: Package Specification; ComponentLink3URL: http://www.onsemi.cn/pub_link/Collateral/369D.PDF
footprint ONSC-IPAK-3-369D-01 (FM, 3-Leads, Body 6.75x2.4mm, Pitch 2.29mm)
pins: 1 B, 2 C, 3 E

## MJD112-1G
designator Q?
Complementary Darlington Power Transistor, 3-Pin IPAK, Pb-Free, Tube; Manufacturer: On Semiconductor; PartNumber: MJD112-1G; hFE Max (k): 12; IC Continuous (A): 2; Polarity: NPN; DatasheetVersion: Rev. 13; PackageVersion: Rev. C, 12/2010; PackageReference: IPAK-3-369D-01; PackageDescription: 3-Pin Flange Mount, Vertical Straight Lead, Body 6.54 x 2.285 mm, Pitch 2.29 mm; Supplier 1: Digi-Key; Supplier Part Number 1: MJD112-1GOS-ND; Supplier 2: Farnell; Supplier Part Number 2: 1364070; Supplier 3: Newark; Supplier Part Number 3: 26K4439; Supplier 4: Mouser; Supplier Part Number 4: 863-MJD112-1G; Packing: Tube; RoHS: TRUE; Mounting Technology: Through Hole; Code_JEDEC: TO-251; ComponentLink1Description: Manufacturer URL; ComponentLink1URL: http://www.onsemi.com/; ComponentLink2Description: Datasheet; ComponentLink2URL: http://www.onsemi.com/pub_link/Collateral/MJD112-D.PDF; ComponentLink3Description: Package Specification; ComponentLink3URL: http://www.onsemi.cn/pub_link/Collateral/369D.PDF
footprint ONSC-IPAK-3-369D-01 (FM, 3-Leads, Body 6.75x2.4mm, Pitch 2.29mm)
pins: 1 B, 2 C, 3 E

## MJD112G
designator Q?
Complementary Darlington Power Transistor, 3-Pin DPAK, Pb-Free, Tube; Manufacturer: On Semiconductor; PartNumber: MJD112G; hFE Max (k): 12; IC Continuous (A): 2; Polarity: NPN; DatasheetVersion: Rev. 13; PackageVersion: Rev. E, 02/2014; PackageReference: DPAK-3-369C-01; PackageDescription: 3-Pin Flange Mount, Body 6.54 x 6.095 mm, Pitch 2.29 mm; Supplier 1: Digi-Key; Supplier Part Number 1: MJD112GOS-ND; Supplier 2: Farnell; Supplier Part Number 2: 1459084; Supplier 3: Newark; Supplier Part Number 3: 58M9087; Supplier 4: Newark; Supplier Part Number 4: 42K1268; Supplier 5: Mouser; Supplier Part Number 5: 863-MJD112G; Packing: Tube; RoHS: TRUE; Mounting Technology: Surface Mount; ComponentLink1Description: Manufacturer URL; ComponentLink1URL: http://www.onsemi.com/; ComponentLink2Description: Datasheet; ComponentLink2URL: http://www.onsemi.com/pub_link/Collateral/MJD112-D.PDF; ComponentLink3Description: Package Specification; ComponentLink3URL: http://www.onsemi.cn/pub_link/Collateral/369C.PDF
footprint ONSC-DPAK-3-369C-01_V (DPAK, 3-Leads, Body 6.54x6.095mm, Pitch 2.29mm)
pins: 1 B, 3 E, 4 C

## MJD112RL
designator Q?
Complementary Darlington Power Transistor, 3-Pin DPAK, Tape and Reel; Manufacturer: On Semiconductor; PartNumber: MJD112RL; hFE Max (k): 12; IC Continuous (A): 2; Polarity: NPN; DatasheetVersion: Rev. 13; PackageVersion: Rev. E, 02/2014; PackageReference: DPAK-3-369C-01; PackageDescription: 3-Pin Flange Mount, Body 6.54 x 6.095 mm, Pitch 2.29 mm; Supplier 1: Digi-Key; Supplier Part Number 1: MJD112RL-ND; Packing: Tape and Reel; RoHS: FALSE; Mounting Technology: Surface Mount; ComponentLink1Description: Manufacturer URL; ComponentLink1URL: http://www.onsemi.com/; ComponentLink2Description: Datasheet; ComponentLink2URL: http://www.onsemi.com/pub_link/Collateral/MJD112-D.PDF; ComponentLink3Description: Package Specification; ComponentLink3URL: http://www.onsemi.cn/pub_link/Collateral/369C.PDF
footprint ONSC-DPAK-3-369C-01_V (DPAK, 3-Leads, Body 6.54x6.095mm, Pitch 2.29mm)
pins: 1 B, 3 E, 4 C

## MJD112RLG
designator Q?
Complementary Darlington Power Transistor, 3-Pin DPAK, Pb-Free, Tape and Reel; Manufacturer: On Semiconductor; PartNumber: MJD112RLG; hFE Max (k): 12; IC Continuous (A): 2; Polarity: NPN; DatasheetVersion: Rev. 13; PackageVersion: Rev. E, 02/2014; PackageReference: DPAK-3-369C-01; PackageDescription: 3-Pin Flange Mount, Body 6.54 x 6.095 mm, Pitch 2.29 mm; Supplier 1: Digi-Key; Supplier Part Number 1: MJD112RLGOSTR-ND; Supplier 2: Digi-Key; Supplier Part Number 2: MJD112RLGOSCT-ND; Supplier 3: Digi-Key; Supplier Part Number 3: MJD112RLGOSDKR-ND; Supplier 4: Newark; Supplier Part Number 4: 71J5846; Supplier 5: Mouser; Supplier Part Number 5: 863-MJD112RLG; Packing: Tape and Reel; RoHS: TRUE; Mounting Technology: Surface Mount; ComponentLink1Description: Manufacturer URL; ComponentLink1URL: http://www.onsemi.com/; ComponentLink2Description: Datasheet; ComponentLink2URL: http://www.onsemi.com/pub_link/Collateral/MJD112-D.PDF; ComponentLink3Description: Package Specification; ComponentLink3URL: http://www.onsemi.cn/pub_link/Collateral/369C.PDF
footprint ONSC-DPAK-3-369C-01_V (DPAK, 3-Leads, Body 6.54x6.095mm, Pitch 2.29mm)
pins: 1 B, 3 E, 4 C

## MJD112T4
designator Q?
Complementary Darlington Power Transistor, 3-Pin DPAK, Tape and Reel; Manufacturer: On Semiconductor; PartNumber: MJD112T4; hFE Max (k): 12; IC Continuous (A): 2; Polarity: NPN; DatasheetVersion: Rev. 13; PackageVersion: Rev. E, 02/2014; PackageReference: DPAK-3-369C-01; PackageDescription: 3-Pin Flange Mount, Body 6.54 x 6.095 mm, Pitch 2.29 mm; Supplier 1: Digi-Key; Supplier Part Number 1: MJD112T4OSCT-ND; Supplier 2: Digi-Key; Supplier Part Number 2: MJD112T4OSDKR-ND; Packing: Tape and Reel; RoHS: FALSE; Mounting Technology: Surface Mount; ComponentLink1Description: Manufacturer URL; ComponentLink1URL: http://www.onsemi.com/; ComponentLink2Description: Datasheet; ComponentLink2URL: http://www.onsemi.com/pub_link/Collateral/MJD112-D.PDF; ComponentLink3Description: Package Specification; ComponentLink3URL: http://www.onsemi.cn/pub_link/Collateral/369C.PDF
footprint ONSC-DPAK-3-369C-01_V (DPAK, 3-Leads, Body 6.54x6.095mm, Pitch 2.29mm)
pins: 1 B, 3 E, 4 C

## MJD112T4G
designator Q?
Complementary Darlington Power Transistor, 3-Pin DPAK, Pb-Free, Tape and Reel; Manufacturer: On Semiconductor; PartNumber: MJD112T4G; hFE Max (k): 12; IC Continuous (A): 2; Polarity: NPN; DatasheetVersion: Rev. 13; PackageVersion: Rev. E, 02/2014; PackageReference: DPAK-3-369C-01; PackageDescription: 3-Pin Flange Mount, Body 6.54 x 6.095 mm, Pitch 2.29 mm; Supplier 1: Digi-Key; Supplier Part Number 1: MJD112T4GOSTR-ND; Supplier 2: Digi-Key; Supplier Part Number 2: MJD112T4GOSCT-ND; Supplier 3: Digi-Key; Supplier Part Number 3: MJD112T4GOSDKR-ND; Supplier 4: Farnell; Supplier Part Number 4: 1885833; Supplier 5: Farnell; Supplier Part Number 5: 1705535; Supplier 6: Newark; Supplier Part Number 6: 10N9468; Supplier 7: Newark; Supplier Part Number 7: 45J1479; Supplier 8: Mouser; Supplier Part Number 8: 863-MJD112T4G; Packing: Tape and Reel; RoHS: TRUE; Mounting Technology: Surface Mount; ComponentLink1Description: Manufacturer URL; ComponentLink1URL: http://www.onsemi.com/; ComponentLink2Description: Datasheet; ComponentLink2URL: http://www.onsemi.com/pub_link/Collateral/MJD112-D.PDF; ComponentLink3Description: Package Specification; ComponentLink3URL: http://www.onsemi.cn/pub_link/Collateral/369C.PDF
footprint ONSC-DPAK-3-369C-01_V (DPAK, 3-Leads, Body 6.54x6.095mm, Pitch 2.29mm)
pins: 1 B, 3 E, 4 C

## MJD117
designator Q?
Complementary Darlington Power Transistor, 3-Pin DPAK, Tube; Manufacturer: On Semiconductor; PartNumber: MJD117; hFE Max (k): 12; IC Continuous (A): 2; Polarity: PNP; DatasheetVersion: Rev. 13; PackageVersion: Rev. E, 02/2014; PackageReference: DPAK-3-369C-01; PackageDescription: 3-Pin Flange Mount, Body 6.54 x 6.095 mm, Pitch 2.29 mm; Supplier 1: Digi-Key; Supplier Part Number 1: MJD117-ND; Packing: Tube; RoHS: FALSE; Mounting Technology: Surface Mount; ComponentLink1Description: Manufacturer URL; ComponentLink1URL: http://www.onsemi.com/; ComponentLink2Description: Datasheet; ComponentLink2URL: http://www.onsemi.com/pub_link/Collateral/MJD112-D.PDF; ComponentLink3Description: Package Specification; ComponentLink3URL: http://www.onsemi.cn/pub_link/Collateral/369C.PDF
footprint ONSC-DPAK-3-369C-01_V (DPAK, 3-Leads, Body 6.54x6.095mm, Pitch 2.29mm)
pins: 1 B, 3 E, 4 C

## MJD117-1G
designator Q?
Complementary Darlington Power Transistor, 3-Pin IPAK, Pb-Free, Tube; Manufacturer: On Semiconductor; PartNumber: MJD117-1G; hFE Max (k): 12; IC Continuous (A): 2; Polarity: PNP; DatasheetVersion: Rev. 13; PackageVersion: Rev. C, 12/2010; PackageReference: IPAK-3-369D-01; PackageDescription: 3-Pin Flange Mount, Vertical Straight Lead, Body 6.54 x 2.285 mm, Pitch 2.29 mm; Supplier 1: Digi-Key; Supplier Part Number 1: MJD117-1G-ND; Supplier 2: Newark; Supplier Part Number 2: 26K2692; Supplier 3: Mouser; Supplier Part Number 3: 863-MJD117-1G; Packing: Tube; RoHS: TRUE; Mounting Technology: Through Hole; Code_JEDEC: TO-251; ComponentLink1Description: Manufacturer URL; ComponentLink1URL: http://www.onsemi.com/; ComponentLink2Description: Datasheet; ComponentLink2URL: http://www.onsemi.com/pub_link/Collateral/MJD112-D.PDF; ComponentLink3Description: Package Specification; ComponentLink3URL: http://www.onsemi.cn/pub_link/Collateral/369D.PDF
footprint ONSC-IPAK-3-369D-01 (FM, 3-Leads, Body 6.75x2.4mm, Pitch 2.29mm)
pins: 1 B, 2 C, 3 E

## MJD117G
designator Q?
Complementary Darlington Power Transistor, 3-Pin DPAK, Pb-Free, Tube; Manufacturer: On Semiconductor; PartNumber: MJD117G; hFE Max (k): 12; IC Continuous (A): 2; Polarity: PNP; DatasheetVersion: Rev. 13; PackageVersion: Rev. E, 02/2014; PackageReference: DPAK-3-369C-01; PackageDescription: 3-Pin Flange Mount, Body 6.54 x 6.095 mm, Pitch 2.29 mm; Supplier 1: Digi-Key; Supplier Part Number 1: MJD117GOS-ND; Supplier 2: Farnell; Supplier Part Number 2: 1703972; Supplier 3: Newark; Supplier Part Number 3: 45J1480; Supplier 4: Mouser; Supplier Part Number 4: 863-MJD117G; Packing: Tube; RoHS: TRUE; Mounting Technology: Surface Mount; ComponentLink1Description: Manufacturer URL; ComponentLink1URL: http://www.onsemi.com/; ComponentLink2Description: Datasheet; ComponentLink2URL: http://www.onsemi.com/pub_link/Collateral/MJD112-D.PDF; ComponentLink3Description: Package Specification; ComponentLink3URL: http://www.onsemi.cn/pub_link/Collateral/369C.PDF
footprint ONSC-DPAK-3-369C-01_V (DPAK, 3-Leads, Body 6.54x6.095mm, Pitch 2.29mm)
pins: 1 B, 3 E, 4 C

## MJD117RLG
designator Q?
Complementary Darlington Power Transistor, 3-Pin DPAK, Pb-Free, Tape and Reel; Manufacturer: On Semiconductor; PartNumber: MJD117RLG; hFE Max (k): 12; IC Continuous (A): 2; Polarity: PNP; DatasheetVersion: Rev. 13; PackageVersion: Rev. E, 02/2014; PackageReference: DPAK-3-369C-01; PackageDescription: 3-Pin Flange Mount, Body 6.54 x 6.095 mm, Pitch 2.29 mm; Supplier 1: Digi-Key; Supplier Part Number 1: MJD117RLG-ND; Supplier 2: Newark; Supplier Part Number 2: 34M7590; Supplier 3: Mouser; Supplier Part Number 3: 863-MJD117RLG; Packing: Tape and Reel; RoHS: TRUE; Mounting Technology: Surface Mount; ComponentLink1Description: Manufacturer URL; ComponentLink1URL: http://www.onsemi.com/; ComponentLink2Description: Datasheet; ComponentLink2URL: http://www.onsemi.com/pub_link/Collateral/MJD112-D.PDF; ComponentLink3Description: Package Specification; ComponentLink3URL: http://www.onsemi.cn/pub_link/Collateral/369C.PDF
footprint ONSC-DPAK-3-369C-01_V (DPAK, 3-Leads, Body 6.54x6.095mm, Pitch 2.29mm)
pins: 1 B, 3 E, 4 C

## MJD117T4
designator Q?
Complementary Darlington Power Transistor, 3-Pin DPAK, Tape and Reel; Manufacturer: On Semiconductor; PartNumber: MJD117T4; hFE Max (k): 12; IC Continuous (A): 2; Polarity: PNP; DatasheetVersion: Rev. 13; PackageVersion: Rev. E, 02/2014; PackageReference: DPAK-3-369C-01; PackageDescription: 3-Pin Flange Mount, Body 6.54 x 6.095 mm, Pitch 2.29 mm; Supplier 1: Digi-Key; Supplier Part Number 1: MJD117T4OSCT-ND; Supplier 2: Digi-Key; Supplier Part Number 2: MJD117T4OSDKR-ND; Packing: Tape and Reel; RoHS: FALSE; Mounting Technology: Surface Mount; ComponentLink1Description: Manufacturer URL; ComponentLink1URL: http://www.onsemi.com/; ComponentLink2Description: Datasheet; ComponentLink2URL: http://www.onsemi.com/pub_link/Collateral/MJD112-D.PDF; ComponentLink3Description: Package Specification; ComponentLink3URL: http://www.onsemi.cn/pub_link/Collateral/369C.PDF
footprint ONSC-DPAK-3-369C-01_V (DPAK, 3-Leads, Body 6.54x6.095mm, Pitch 2.29mm)
pins: 1 B, 3 E, 4 C

## MJD117T4G
designator Q?
Complementary Darlington Power Transistor, 3-Pin DPAK, Pb-Free, Tape and Reel; Manufacturer: On Semiconductor; PartNumber: MJD117T4G; hFE Max (k): 12; IC Continuous (A): 2; Polarity: PNP; DatasheetVersion: Rev. 13; PackageVersion: Rev. E, 02/2014; PackageReference: DPAK-3-369C-01; PackageDescription: 3-Pin Flange Mount, Body 6.54 x 6.095 mm, Pitch 2.29 mm; Supplier 1: Digi-Key; Supplier Part Number 1: MJD117T4GOSTR-ND; Supplier 2: Digi-Key; Supplier Part Number 2: MJD117T4GOSCT-ND; Supplier 3: Digi-Key; Supplier Part Number 3: MJD117T4GOSDKR-ND; Supplier 4: Farnell; Supplier Part Number 4: 1861271; Supplier 5: Newark; Supplier Part Number 5: 77M8935; Supplier 6: Newark; Supplier Part Number 6: 71J5847; Supplier 7: Mouser; Supplier Part Number 7: 863-MJD117T4G; Packing: Tape and Reel; RoHS: TRUE; Mounting Technology: Surface Mount; ComponentLink1Description: Manufacturer URL; ComponentLink1URL: http://www.onsemi.com/; ComponentLink2Description: Datasheet; ComponentLink2URL: http://www.onsemi.com/pub_link/Collateral/MJD112-D.PDF; ComponentLink3Description: Package Specification; ComponentLink3URL: http://www.onsemi.cn/pub_link/Collateral/369C.PDF
footprint ONSC-DPAK-3-369C-01_V (DPAK, 3-Leads, Body 6.54x6.095mm, Pitch 2.29mm)
pins: 1 B, 3 E, 4 C